# Altium footprint library TO-263AB.PcbLib: 1 footprints
Each footprint in its own frame and in the unit in brackets; x right, y up, seen from the top. Pads: shape width x height; smd on the part's side, far side on the other; paste and mask are expansions set on the pad; w line width, h text height; cw(c..) or ccw(c..) is an arc to the next point about the centre after c.
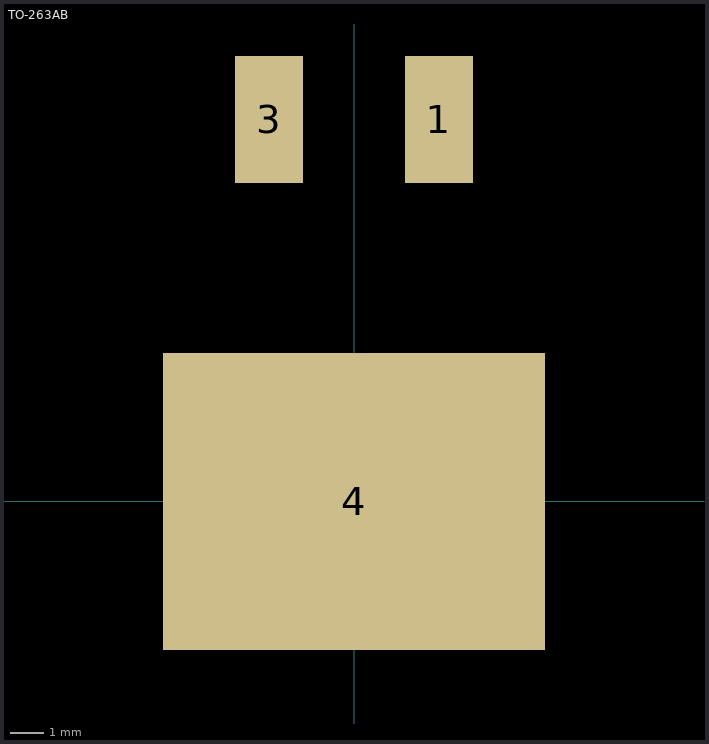
[diagram p0: the footprint, top view; thin cyan lines are the x and y axes]

## TO-263AB [mil]
pads (3):
  rect 80x150 smd: 1(100,450) 3(-100,450)
  rect 450x350 smd mask+4: 4(0,0)